# Altium schematic symbol library MICROCHIP_MCP48X2.SchLib: 1 symbol
Pins are listed as number, name and electrical type; pins without a type are passive.

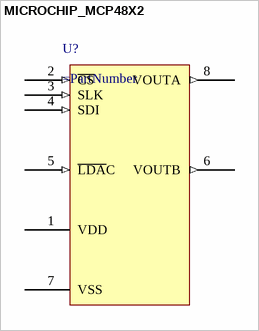
[diagram p0: symbol MICROCHIP_MCP48X2]

## MICROCHIP_MCP48X2
designator U?
pins: 1 VDD, 2 ~{CS} (in), 3 SLK (in), 4 SDI (in), 5 ~{LDA}C (in), 6 VOUTB (out), 7 VSS, 8 VOUTA (out)